# Altium integrated library gpn-badge.IntLib: 48 symbols
Pins are listed as number, name and electrical type; pins without a type are passive.

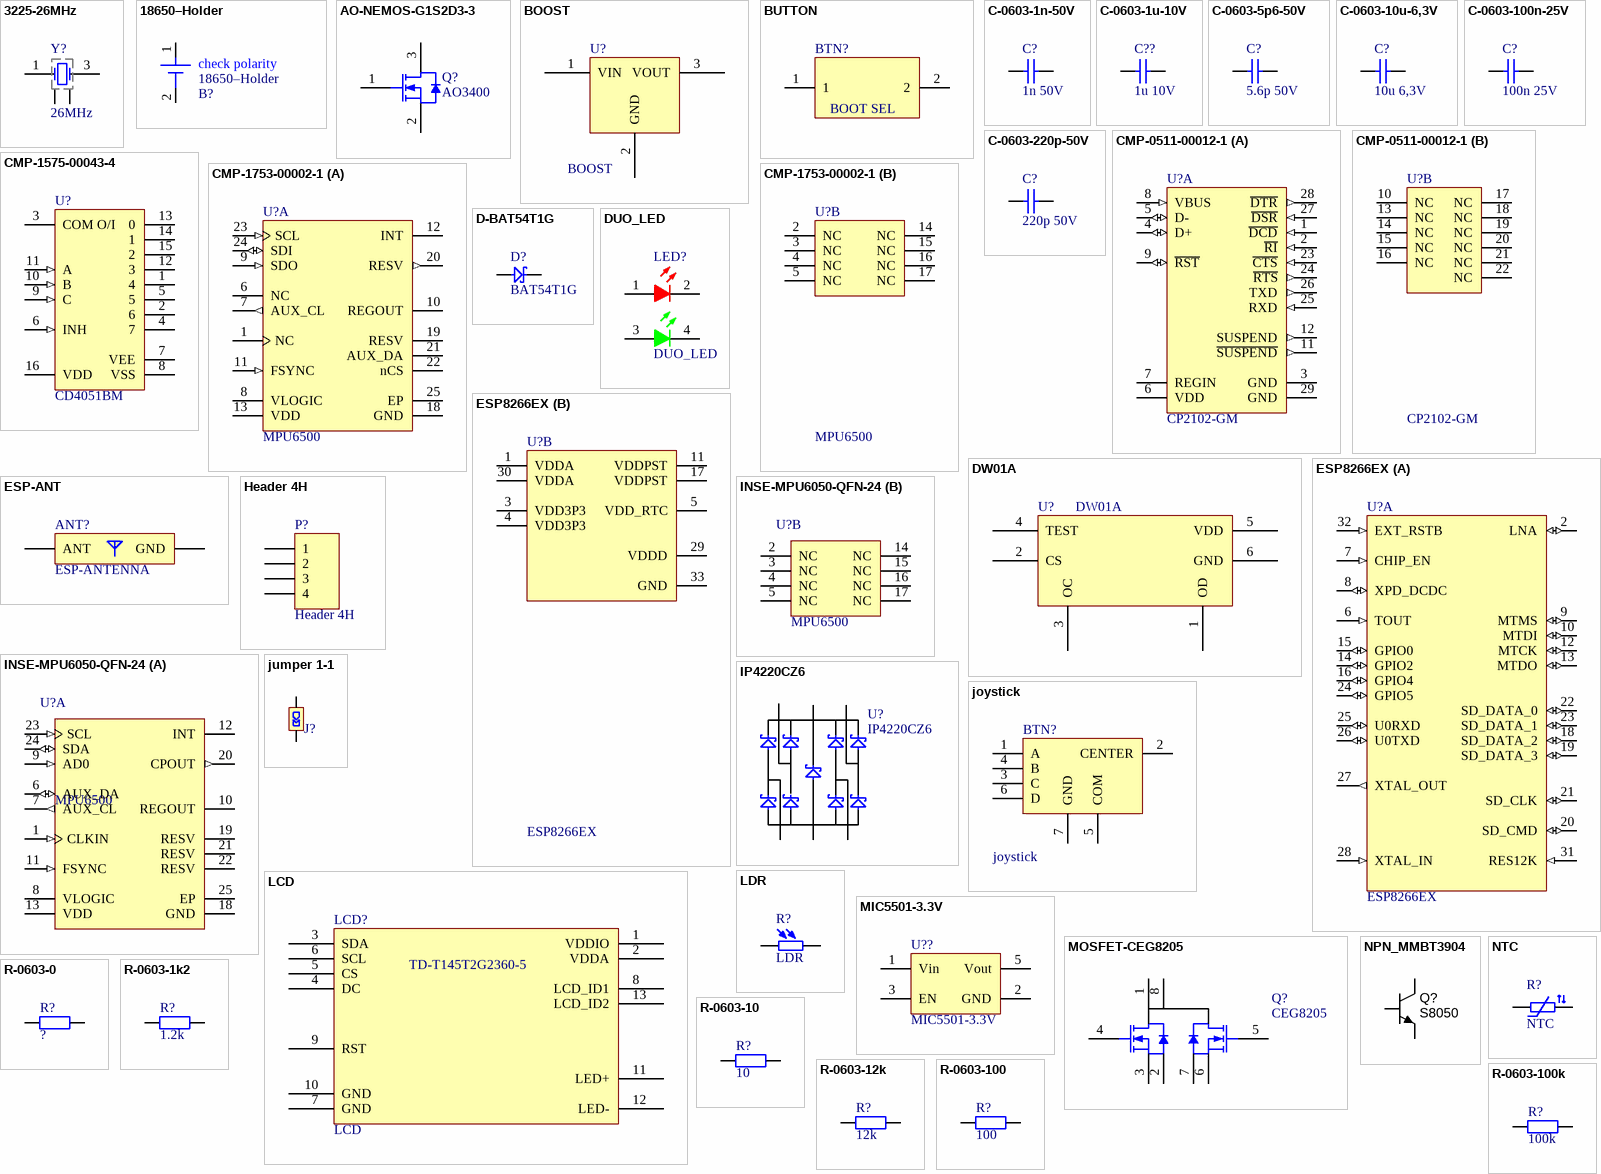
[diagram p0: symbols 3225-26MHz to R-0603-100k]

## 3225-26MHz
designator Y?, comment 26MHz
footprint 3225
pins: 1 (power), 2 (power), 3 (power), 4 (power)

## 18650–Holder
designator B?
footprint 18650–Holder
pins: 1, 2
text: check polarity

## AO-NEMOS-G1S2D3-3
designator Q?, comment AO3400
N-channel Enhancement Mode Field-Effect Transistor; 5.8A/30V; Manufacturer: Alpha and Omega; Channel Type: N; Drain-Source Voltage Limit: 30 V; Junction Temperature: -55 to 150 degC; Gate-Source Voltage Limit: +/-12 V; PackageDescription: 3-Pin SOT23, 3.016 x 2.8 mm Body, 0.95 mm Pitch; ComponentLink2Description: Datasheet; DatasheetVersion: Rev.8, 12/2011; ComponentLink3URL: http://www.aosmd.com/res/packaging_information/SOT-23.pdf; Storage Temperature: -55 to 150 degC; ComponentLink3Description: Package Specification; PackageReference: SOT23; ComponentLink1Description: Manufacturer URL; Mounting Technology: Surface Mount; ComponentLink1URL: http://www.aosmd.com/; PartNumber: AO3400; ComponentLink2URL: http://www.aosmd.com/res/data_sheets/AO3400.pdf
footprint AO-SOT23-3_V (SOT23, 3-Leads, Body 3.016x2.8mm, Pitch 0.95mm)
pins: 1 G, 2 S, 3 D

## BOOST
designator U?
footprint BOOST
pins: 1 VIN, 2 GND, 3 VOUT

## BUTTON
designator BTN?
footprint BUTON
pins: 1, 2
text: BOOT SEL

## C-0603-1n-50V
designator C?, comment 1n 50V
Capacitor 1nF 50V; Supplier 1: Mouser; Supplier Part Number 1: 80-C0603C102J5G
footprint C-0603-H (Chip Resistor, Body 1.6x0.8mm, IPC High Density)
footprint C-0603-L (Chip Resistor, Body 1.6x0.8mm, IPC Low Density)
footprint C-0603-M (Chip Resistor, Body 1.6x0.8mm, IPC Medium Density)
pins: 1, 2

## C-0603-1u-10V
designator C??, comment 1u 10V
Capacitor 1uF 10V; Supplier 1: Mouser; Supplier Part Number 1: 80-C0603C105K8P
footprint C-0603-H (Chip Resistor, Body 1.6x0.8mm, IPC High Density)
footprint C-0603-L (Chip Resistor, Body 1.6x0.8mm, IPC Low Density)
footprint C-0603-M (Chip Resistor, Body 1.6x0.8mm, IPC Medium Density)
pins: 1, 2

## C-0603-5p6-50V
designator C?, comment 5.6p 50V
Capacitor 5.6pF 50V; Supplier 1: Mouser; Supplier Part Number 1: 80-C0603C569C5GACTM
footprint C-0603-H (Chip Resistor, Body 1.6x0.8mm, IPC High Density)
footprint C-0603-L (Chip Resistor, Body 1.6x0.8mm, IPC Low Density)
footprint C-0603-M (Chip Resistor, Body 1.6x0.8mm, IPC Medium Density)
pins: 1, 2

## C-0603-10u-6,3V
designator C?, comment 10u 6,3V
Capacitor 10uF 6,3V; Supplier 1: Mouser; Supplier Part Number 1: 80-C0603C106M9P
footprint C-0603-H (Chip Resistor, Body 1.6x0.8mm, IPC High Density)
footprint C-0603-L (Chip Resistor, Body 1.6x0.8mm, IPC Low Density)
footprint C-0603-M (Chip Resistor, Body 1.6x0.8mm, IPC Medium Density)
pins: 1, 2

## C-0603-100n-25V
designator C?, comment 100n 25V
Capacitor 100n 25V; Supplier 1: Mouser; Supplier Part Number 1: 80-C0603C104K3R
footprint C-0603-H (Chip Resistor, Body 1.6x0.8mm, IPC High Density)
footprint C-0603-L (Chip Resistor, Body 1.6x0.8mm, IPC Low Density)
footprint C-0603-M (Chip Resistor, Body 1.6x0.8mm, IPC Medium Density)
pins: 1, 2

## C-0603-220p-50V
designator C?, comment 220p 50V
Capacitor 220p 50V; Supplier 1: Mouser; Supplier Part Number 1: 80-C0603C221F5GAC
footprint C-0603-H (Chip Resistor, Body 1.6x0.8mm, IPC High Density)
footprint C-0603-L (Chip Resistor, Body 1.6x0.8mm, IPC Low Density)
footprint C-0603-M (Chip Resistor, Body 1.6x0.8mm, IPC Medium Density)
pins: 1, 2

## CMP-0511-00012-1
designator U?, comment CP2102-GM
Single-Chip USB to UART Bridge, 1024 Bytes EEPROM, -40 to 85 degC, 28-pin QFN, Tube; Manufacturer: Silicon Labs; Internal Oscillator: TRUE; Sub-Family: USB Bridges; ComponentLink3Description: Package Specification; PackageDescription: 28-Pin Quad-Flat No-Leads Package, Body 5 x 5 mm, Pitch 0.5 mm; PartNumber: CP2102-GM; EEPROM: 1024 Bytes; Mounting Technology: Surface Mount; ComponentLink2URL: http://www.silabs.com/Support%20Documents/TechnicalDocs/CP2102-9.pdf; DatasheetVersion: Rev. 1.5; ComponentLink1URL: http://www.silabs.com/; ComponentLink2Description: Datasheet; Code_JEDEC: MO-220; PackageReference: QFN-28; Code_IPC: J-STD-020C; ComponentLink3URL: http://www.silabs.com/Support%20Documents/TechnicalDocs/C8051T61x.pdf; ComponentLink1Description: Manufacturer URL; PartId: 1
footprint SLAB-QFN-28-3125x3125TP_N (QFN, 28-Leads, Body 5x5mm, Pitch 0.5mm, Thermal Pad 3.13x3.13mm, IPC Medium Density)
footprint SLAB-QFN-28-3125x3125TP_M (QFN, 28-Leads, Body 5x5mm, Pitch 0.5mm, Thermal Pad 3.13x3.13mm, IPC Low Density)
footprint SLAB-QFN-28-3125x3125TP_L (QFN, 28-Leads, Body 5x5mm, Pitch 0.5mm, Thermal Pad 3.13x3.13mm, IPC High Density)
part A pins: 1 ~{DCD} (in) "Data Carrier Detect control input (active low)", 2 ~{RI} (in) "Ring Indicator control input (active low)", 3 GND (power) "Ground", 4 D+ (io) "USB D+", 5 D- (io) "USB D-", 6 VDD (power) "3.0-3.6 V Power Supply Voltage Input. 3.3 V Voltage Regulator Output", 7 REGIN (power) "5 V Regulator Input. This pin is the input to the on-chip voltage regulator.", 8 VBUS (in) "VBUS Sense Input. This pin should be connected to the VBUS signal of a USB network. A 5 V signal on this pin indicates a USB network connection.", 9 ~{RST} (io) "Device Reset. Open-drain output of internal POR or VDD monitor. An external source can initiate a system reset by driving this pin low for at least 15 us.", 11 ~{SUSPEND} (out), 12 SUSPEND (out), 23 ~{CTS} (in) "Clear To Send control input (active low)", 24 ~{RTS} (out) "Ready to Send control output (active low)", 25 RXD (in) "Asynchronous data input (UART Receive)", 26 TXD (out) "Asynchronous data output (UART Transmit)", 27 ~{DSR} (in) "Data Set Ready control input (active low)", 28 ~{DTR} (out) "Data Terminal Ready control output (active low)", 29 GND (power) "Ground"
part B pins: 10 NC "These pins should be left unconnected or tied to VDD.", 13 NC "These pins should be left unconnected or tied to VDD.", 14 NC "These pins should be left unconnected or tied to VDD.", 15 NC "These pins should be left unconnected or tied to VDD.", 16 NC "These pins should be left unconnected or tied to VDD.", 17 NC "These pins should be left unconnected or tied to VDD.", 18 NC "These pins should be left unconnected or tied to VDD.", 19 NC "These pins should be left unconnected or tied to VDD.", 20 NC "These pins should be left unconnected or tied to VDD.", 21 NC "These pins should be left unconnected or tied to VDD.", 22 NC "These pins should be left unconnected or tied to VDD."

## CMP-1575-00043-4
designator U?, comment CD4051BM
CMOS Single 8-Channel Analog Multiplexer/Demultiplexer with Logic-Level Conversion, D0016A, TUBE; Manufacturer: Texas Instruments; Ron(Typ)(Ohms): 125; Configuration: 1 X 1：8 MUX; ICC(Typ)(mA): 0.00008; Ron(Max)(Ohms): 240; VCC(Min)(V): 5; VCC(Max)(V): 18; Crosstalk: Yes; Bandwidth(Max)(MHz): 20; Rating: Military; Output Drive (IOL/IOH)(Max)(mA): 1; DatasheetVersion: SCHS047G; Generic Part Number: CD4051B; Output Type: CMOS; PackageReference: D0016A; PackageVersion: http://www.ti.com/lit/ml/mpds178g/mpds178g.pdf; Operating Temperature Range(C): -55 to 125; Code_JEDEC: MS-012 variation AC
footprint D0016A_M (SOIC, 16-Leads, Body 10x4mm, Pitch 1.27mm, IPC Low Density)
footprint D0016A_L (SOIC, 16-Leads, Body 10x4mm, Pitch 1.27mm, IPC High Density)
footprint D0016A_N (SOIC, 16-Leads, Body 10x4mm, Pitch 1.27mm, IPC Medium Density)
pins: 1 4, 2 6, 3 COM O/I, 4 7, 5, 6 INH (in), 7 VEE (power), 8 VSS (power), 9 C (in), 10 B (in), 11 A (in), 12 3, 13 0, 14 1, 15 2, 16 VDD (power)

## CMP-1753-00002-1
designator U?, comment MPU6500
3-Axis Gyroscope, 3-Axis Accelerometer / , 2.375 to 3.46 V, -40 to 105 degC, 24-Pin QFN, RoHS, Tape and Reel; Resistance: 5.6 kohm; Tolerance: 1%; Voltage Rating: 75 V; Power Rating: 100 mW; ComponentLink1Description: Manufacturer URL; Mount: Surface Mount; Max Operating Temperature: 155degC; Package Quantity: 5000; ComponentLink2Description: Datasheet; Pins: 2; Packaging: Tape and Reel; Case Code (Imperial): 0603; PackageReference: QFN-24; ComponentLink2URL: https://datasheet.ciiva.com/1513/1788002-1513632.pdf; Radiation Hardening: No; ComponentLink1URL: http://www.invensense.com/; PackageDescription: 24-Pin Quad Flat No-lead Package, Body 4 x 4 mm, Pitch 0.5 mm; Height: 0.45 mm; Case/Package: 0603; Case Code (Metric): 1608; REACH SVHC: Yes; Min Operating Temperature: -55degC; DatasheetVersion: Rev. 3.4, 08/2013; Width: 0.8 mm; RoHSCompliant: True; Length: 1.6 mm; PartId: 1
footprint INSE-QFN-24_V (QFN, 24-Leads, Body 4.00x4.00mm, Pitch 0.50mm, Thermal Pad 2.7x2.6mm)
part A pins: 1 NC "Not internally connected. May be used for PCB trace routing.", 6 NC "Not internally connected. May be used for PCB trace routing.", 7 AUX_CL (out) "I2C Master serial clock, for connecting to external sensors", 8 VLOGIC (power) "Digital I/O supply voltage", 9 SDO (in) "SPI MISO", 10 REGOUT "Regulator filter capacitor connection", 11 FSYNC (in) "Frame synchronization digital input. Connect to GND if unused.", 12 INT (oc) "Interrupt digital output (totem pole or open-drain)", 13 VDD (power) "Power supply voltage and Digital I/O supply voltage", 18 GND (power) "Power supply ground", 19 RESV "Reserved. Do not connect.", 20 RESV (out) "Reserved. Do not connect.", 21 AUX_DA, 22 nCS "SPI CS", 23 SCL (in) "SPI serial clock (SCL)", 24 SDI (io) "SPI MOSI", 25 EP
part B pins: 2 NC "Not internally connected. May be used for PCB trace routing.", 3 NC "Not internally connected. May be used for PCB trace routing.", 4 NC "Not internally connected. May be used for PCB trace routing.", 5 NC "Not internally connected. May be used for PCB trace routing.", 14 NC "Not internally connected. May be used for PCB trace routing.", 15 NC "Not internally connected. May be used for PCB trace routing.", 16 NC "Not internally connected. May be used for PCB trace routing.", 17 NC "Not internally connected. May be used for PCB trace routing."

## D-BAT54T1G
designator D?, comment BAT54T1G
Supplier 1: Mouser; Supplier Part Number 1: 863-BAT54T1G
footprint SOD123
pins: 1 an, 2 kt

## DUO_LED
designator LED?
footprint LEDDUO
pins: 1 A, 2 K, 3 A, 4 K

## DW01A
designator U?
Single Cell LiIon LiPo Protection
footprint SOT23-6 (SOT23, 6-Leads, Body 2.9x1.6mm, Pitch 0.95mm, Lead Span 2.8mm, IPC Medium Density)
pins: 1 OD, 2 CS, 3 OC, 4 TEST, 5 VDD, 6 GND

## ESP8266EX
designator U?
footprint QFN32-5x5mm (QFN, 32-Leads, Body 5x5mm, Pitch 0.5mm, Thermal Pad 3.3x3.3mm, IPC Medium Density)
part A pins: 2 LNA (io), 6 TOUT (in), 7 CHIP_EN (in), 8 XPD_DCDC (io), 9 MTMS (io), 10 MTDI (io), 12 MTCK (io), 13 MTDO (io), 14 GPIO2 (io), 15 GPIO0 (io), 16 GPIO4 (io), 18 SD_DATA_2 (io), 19 SD_DATA_3 (io), 20 SD_CMD (io), 21 SD_CLK (io), 22 SD_DATA_0 (io), 23 SD_DATA_1 (io), 24 GPIO5 (io), 25 U0RXD (io), 26 U0TXD (io), 27 XTAL_OUT (out), 28 XTAL_IN (in), 31 RES12K (in), 32 EXT_RSTB (in)
part B pins: 1 VDDA (power), 3 VDD3P3 (power), 4 VDD3P3 (power), 5 VDD_RTC (power), 11 VDDPST (power), 17 VDDPST (power), 29 VDDD (power), 30 VDDA (power), 33 GND (power)

## ESP-ANT
designator ANT?, comment ESP-ANTENNA
footprint ESP8266_ANT
pins: 1 ANT, 2 GND (power)

## Header 4H
designator P?
Header, 4-Pin, Right Angle; LatestRevisionDate: 17-Jul-2002; LatestRevisionNote: Re-released for DXP Platform.; Publisher: Altium Limited
footprint HDR1X4H (Connector; Header; 4 Position; Right Angle)
signal-integrity model Connector
pins: 1, 2, 3, 4

## INSE-MPU6050-QFN-24
designator U?, comment MPU6500
3-Axis Gyroscope, 3-Axis Accelerometer / , 2.375 to 3.46 V, -40 to 105 degC, 24-Pin QFN, RoHS, Tape and Reel; Resistance: 5.6 kohm; Tolerance: 1%; Voltage Rating: 75 V; Power Rating: 100 mW; ComponentLink1Description: Manufacturer URL; Mount: Surface Mount; Max Operating Temperature: 155degC; Package Quantity: 5000; ComponentLink2Description: Datasheet; Pins: 2; Packaging: Tape and Reel; Case Code (Imperial): 0603; PackageReference: QFN-24; ComponentLink2URL: https://datasheet.ciiva.com/1513/1788002-1513632.pdf; Radiation Hardening: No; ComponentLink1URL: http://www.invensense.com/; PackageDescription: 24-Pin Quad Flat No-lead Package, Body 4 x 4 mm, Pitch 0.5 mm; Height: 0.45 mm; Case/Package: 0603; Case Code (Metric): 1608; REACH SVHC: Yes; Min Operating Temperature: -55degC; DatasheetVersion: Rev. 3.4, 08/2013; Width: 0.8 mm; RoHSCompliant: True; Length: 1.6 mm; PartId: 1
footprint INSE-QFN-24_V (QFN, 24-Leads, Body 4.00x4.00mm, Pitch 0.50mm, Thermal Pad 2.7x2.6mm)
part A pins: 1 CLKIN (in) "Optional external reference clock input. Connect to GND if unused.", 6 AUX_DA (io) "I2C master serial data, for connecting to external sensors", 7 AUX_CL (out) "I2C Master serial clock, for connecting to external sensors", 8 VLOGIC (power) "Digital I/O supply voltage", 9 AD0 (in) "I2C Slave Address LSB (AD0)", 10 REGOUT "Regulator filter capacitor connection", 11 FSYNC (in) "Frame synchronization digital input. Connect to GND if unused.", 12 INT (oc) "Interrupt digital output (totem pole or open-drain)", 13 VDD (power) "Power supply voltage and Digital I/O supply voltage", 18 GND (power) "Power supply ground", 19 RESV "Reserved. Do not connect.", 20 CPOUT (out) "Charge pump capacitor connection", 21 RESV "Reserved. Do not connect.", 22 RESV "Reserved. Do not connect.", 23 SCL (in) "I2C serial clock (SCL)", 24 SDA (io) "I2C serial data (SDA)", 25 EP
part B pins: 2 NC "Not internally connected. May be used for PCB trace routing.", 3 NC "Not internally connected. May be used for PCB trace routing.", 4 NC "Not internally connected. May be used for PCB trace routing.", 5 NC "Not internally connected. May be used for PCB trace routing.", 14 NC "Not internally connected. May be used for PCB trace routing.", 15 NC "Not internally connected. May be used for PCB trace routing.", 16 NC "Not internally connected. May be used for PCB trace routing.", 17 NC "Not internally connected. May be used for PCB trace routing."

## IP4220CZ6
designator U?
USB ESD Protection
footprint SOT23-6 (SOT23, 6-Leads, Body 2.9x1.6mm, Pitch 0.95mm, Lead Span 2.8mm, IPC Medium Density)
pins: 1 bla3, 2 GND, 3 bla4, 4 bla2, 5 VBUS, 6 bla1

## joystick
designator BTN?
footprint joystick
pins: 1 A, 2 CENTER, 3 C, 4 B, 5 COM, 6 D, 7 GND

## jumper 1-1
designator J?, comment jumper  (value not drawn)
footprint JUMPER 1-1
pins: 1, 2

## LCD
designator LCD?
footprint LCD
pins: 1 VDDIO, 2 VDDA, 3 SDA, 4 DC, 5 CS, 6 SCL, 7 GND, 8 LCD_ID1, 9 RST, 10 GND, 11 LED+, 12 LED-, 13 LCD_ID2
text: TD-T145T2G2360-5

## LDR
designator R?
footprint LDR-5mm
pins: 1, 2

## MIC5501-3.3V
designator U??
Supplier 1: Mouser; Supplier Part Number 1: 998-MIC5501-3.0YM5TR
footprint SOT23-5 (SOT23, 5-Leads, Body 2.9x1.6mm, Pitch 0.95mm, Lead Span 2.8mm, IPC Medium Density)
pins: 1 Vin, 2 GND, 3 EN, 5 Vout

## MOSFET-CEG8205
designator Q?, comment CEG8205
Dual mini mosfet 20V 4.5A; Supplier 1: AliExpress
footprint TSSOP8 (TSOP, 8-Leads, Body 3x3mm, Pitch 0.65mm, IPC Medium Density)
pins: 1 S, 2 S1, 3 S1, 4 G1, 5 G2, 6 S2, 7 S2, 8 D

## NPN_MMBT3904
designator Q?  Manufacturer Part Number 1: S8050  (hidden comment: NPN_MMBT3904)
Transistor SMD NPN 40V 0.2A 250mW SOT-23; Manufacturer 1: Fairchild Semiconductor; Ratings: 40V; 200mA; 250mW; Material: Si; SCDType: source; Package / Case: SOT-23; Supplier 1: Digi-Key; Supplier Part Number 1: MMBT3904FSCT-ND; Transistor Type: NPN; Mounting Type: Surface Mount; Supplier 2: Digi-Key; Supplier Part Number 2: 568-1741-1-ND; Manufacturer 2: NXP Semiconductors; Manufacturer Part Number 2: PMBT3904,215; ComponentLink2URL: http://www.nxp.com/documents/data_sheet/PMBT3904.pdf; ComponentLink2Description: http://www.nxp.com/documents/data_sheet/PMBT3904.pdf; ComponentLink1URL: http://www.fairchildsemi.com/ds/MM/MMBT3904.pdf; ComponentLink1Description: http://www.fairchildsemi.com/ds/MM/MMBT3904.pdf
footprint SOT23-3 (SOT23, 3 pin)
pins: 1 B, 2 E, 3 C

## NTC
designator R?
footprint NTC
pins: 1, 2

## R-0603-0
designator R?, comment ?
Resistor 0; Resistance: 0; Supplier 1: Mouser; Supplier Part Number 1: 71-CRCW0603-0-E3
footprint R-0603-L (Chip Resistor, Body 1.6x0.8mm, IPC Low Density)
footprint R-0603-M (Chip Resistor, Body 1.6x0.8mm, IPC Medium Density)
footprint R-0603-H (Chip Resistor, Body 1.6x0.8mm, IPC High Density)
pins: 1, 2

## R-0603-1k2
designator R?, comment 1.2k
Resistor 1.2k
footprint R-0603-L (Chip Resistor, Body 1.6x0.8mm, IPC Low Density)
footprint R-0603-M (Chip Resistor, Body 1.6x0.8mm, IPC Medium Density)
footprint R-0603-H (Chip Resistor, Body 1.6x0.8mm, IPC High Density)
pins: 1, 2

## R-0603-10
designator R?, comment 10
Resistor 10; Supplier 1: Mouser; Supplier Part Number 1: 71-CRCW0603-10-E3
footprint R-0603-H (Chip Resistor, Body 1.6x0.8mm, IPC High Density)
footprint R-0603-L (Chip Resistor, Body 1.6x0.8mm, IPC Low Density)
footprint R-0603-M (Chip Resistor, Body 1.6x0.8mm, IPC Medium Density)
pins: 1, 2

## R-0603-12k
designator R?, comment 12k
Resistor 12k; Supplier 1: Mouser; Supplier Part Number 1: 71-CRCW0603-12K-E3
footprint R-0603-L (Chip Resistor, Body 1.6x0.8mm, IPC Low Density)
footprint R-0603-M (Chip Resistor, Body 1.6x0.8mm, IPC Medium Density)
footprint R-0603-H (Chip Resistor, Body 1.6x0.8mm, IPC High Density)
pins: 1, 2

## R-0603-100
designator R?, comment 100
Resistor 100; Supplier 1: Mouser; Supplier Part Number 1: 71-CRCW0603-100-E3
footprint R-0603-L (Chip Resistor, Body 1.6x0.8mm, IPC Low Density)
footprint R-0603-M (Chip Resistor, Body 1.6x0.8mm, IPC Medium Density)
footprint R-0603-H (Chip Resistor, Body 1.6x0.8mm, IPC High Density)
pins: 1, 2

## R-0603-100k
designator R?, comment 100k
Resistor 100k; Supplier 1: Mouser; Supplier Part Number 1: 71-CRCW0603-100K-E3
footprint R-0603-L (Chip Resistor, Body 1.6x0.8mm, IPC Low Density)
footprint R-0603-M (Chip Resistor, Body 1.6x0.8mm, IPC Medium Density)
footprint R-0603-H (Chip Resistor, Body 1.6x0.8mm, IPC High Density)
pins: 1, 2

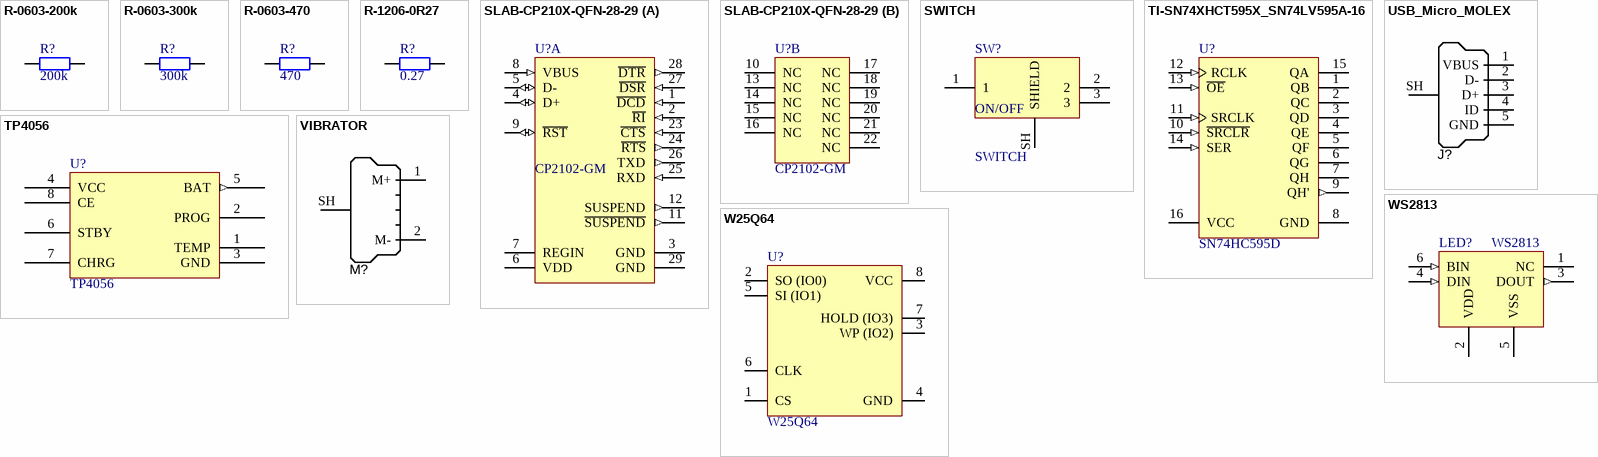
[diagram p1: symbols R-0603-200k to WS2813]

## R-0603-200k
designator R?, comment 200k
Resistor 200k; Supplier 1: Mouser; Supplier Part Number 1: 71-CRCW0603-200K-E3
footprint R-0603-H (Chip Resistor, Body 1.6x0.8mm, IPC High Density)
footprint R-0603-M (Chip Resistor, Body 1.6x0.8mm, IPC Medium Density)
footprint R-0603-L (Chip Resistor, Body 1.6x0.8mm, IPC Low Density)
pins: 1, 2

## R-0603-300k
designator R?, comment 300k
Resistor 300k; Resistance: 300k; Supplier 1: Mouser; Supplier Part Number 1: 71-CRCW0201300KFKED
footprint R-0603-L (Chip Resistor, Body 1.6x0.8mm, IPC Low Density)
footprint R-0603-M (Chip Resistor, Body 1.6x0.8mm, IPC Medium Density)
footprint R-0603-H (Chip Resistor, Body 1.6x0.8mm, IPC High Density)
pins: 1, 2

## R-0603-470
designator R?, comment 470
Resistor 470; Supplier 1: Mouser; Supplier Part Number 1: 71-CRCW0603-470K-E3
footprint R-0603-H (Chip Resistor, Body 1.6x0.8mm, IPC High Density)
footprint R-0603-M (Chip Resistor, Body 1.6x0.8mm, IPC Medium Density)
footprint R-0603-L (Chip Resistor, Body 1.6x0.8mm, IPC Low Density)
pins: 1, 2

## R-1206-0R27
designator R?, comment 0.27
Resistor 0.27; Supplier 1: Mouser; Supplier Part Number 1: 71-RCWE1206R270FKEA
footprint R-1206-H (Chip Resistor, Body 3.2x1.6mm, IPC High Density)
footprint R-1206-L (Chip Resistor, Body 3.2x1.6mm, Height 1mm, IPC Low Density)
footprint R-1206-M (Chip Resistor, Body 3.2x1.6mm, IPC Medium Density)
pins: 1, 2

## SLAB-CP210X-QFN-28-29
designator U?, comment CP2102-GM
Single-Chip USB to UART Bridge, 1024 Bytes EEPROM, -40 to 85 degC, 28-pin QFN, Tube; Manufacturer: Silicon Labs; Internal Oscillator: TRUE; Sub-Family: USB Bridges; ComponentLink3Description: Package Specification; PackageDescription: 28-Pin Quad-Flat No-Leads Package, Body 5 x 5 mm, Pitch 0.5 mm; PartNumber: CP2102-GM; EEPROM: 1024 Bytes; Mounting Technology: Surface Mount; ComponentLink2URL: http://www.silabs.com/Support%20Documents/TechnicalDocs/CP2102-9.pdf; DatasheetVersion: Rev. 1.5; ComponentLink1URL: http://www.silabs.com/; ComponentLink2Description: Datasheet; Code_JEDEC: MO-220; PackageReference: QFN-28; Code_IPC: J-STD-020C; ComponentLink3URL: http://www.silabs.com/Support%20Documents/TechnicalDocs/C8051T61x.pdf; ComponentLink1Description: Manufacturer URL; PartId: 1
footprint SLAB-QFN-28-3125x3125TP_N (QFN, 28-Leads, Body 5x5mm, Pitch 0.5mm, Thermal Pad 3.13x3.13mm, IPC Medium Density)
footprint SLAB-QFN-28-3125x3125TP_M (QFN, 28-Leads, Body 5x5mm, Pitch 0.5mm, Thermal Pad 3.13x3.13mm, IPC Low Density)
footprint SLAB-QFN-28-3125x3125TP_L (QFN, 28-Leads, Body 5x5mm, Pitch 0.5mm, Thermal Pad 3.13x3.13mm, IPC High Density)
part A pins: 1 ~{DCD} (in) "Data Carrier Detect control input (active low)", 2 ~{RI} (in) "Ring Indicator control input (active low)", 3 GND (power) "Ground", 4 D+ (io) "USB D+", 5 D- (io) "USB D-", 6 VDD (power) "3.0-3.6 V Power Supply Voltage Input. 3.3 V Voltage Regulator Output", 7 REGIN (power) "5 V Regulator Input. This pin is the input to the on-chip voltage regulator.", 8 VBUS (in) "VBUS Sense Input. This pin should be connected to the VBUS signal of a USB network. A 5 V signal on this pin indicates a USB network connection.", 9 ~{RST} (io) "Device Reset. Open-drain output of internal POR or VDD monitor. An external source can initiate a system reset by driving this pin low for at least 15 us.", 11 ~{SUSPEND} (out), 12 SUSPEND (out), 23 ~{CTS} (in) "Clear To Send control input (active low)", 24 ~{RTS} (out) "Ready to Send control output (active low)", 25 RXD (in) "Asynchronous data input (UART Receive)", 26 TXD (out) "Asynchronous data output (UART Transmit)", 27 ~{DSR} (in) "Data Set Ready control input (active low)", 28 ~{DTR} (out) "Data Terminal Ready control output (active low)", 29 GND (power) "Ground"
part B pins: 10 NC "These pins should be left unconnected or tied to VDD.", 13 NC "These pins should be left unconnected or tied to VDD.", 14 NC "These pins should be left unconnected or tied to VDD.", 15 NC "These pins should be left unconnected or tied to VDD.", 16 NC "These pins should be left unconnected or tied to VDD.", 17 NC "These pins should be left unconnected or tied to VDD.", 18 NC "These pins should be left unconnected or tied to VDD.", 19 NC "These pins should be left unconnected or tied to VDD.", 20 NC "These pins should be left unconnected or tied to VDD.", 21 NC "These pins should be left unconnected or tied to VDD.", 22 NC "These pins should be left unconnected or tied to VDD."

## SWITCH
designator SW?
footprint SWITCH
pins: 1, 2, 3, SH SHIELD
text: ON/OFF

## TI-SN74XHCT595X_SN74LV595A-16
designator U?, comment SN74HC595D
8-Bit Shift Registers With 3-State Output Registers, D0016A, TUBE; Manufacturer: Texas Instruments; Bits: 8; F @ Nom Voltage(Max)(Mhz): 28; Voltage(Nom)(V): 6; ICC @ Nom Voltage(Max)(mA): 0.08; Output Drive (IOL/IOH)(Max)(mA): 7.8/-7.8; tpd @ Nom Voltage(Max)(ns): 34; 3-State Output: Yes; VCC(Min)(V): 2; Output Type: CMOS; Technology Family: HC; Rating: Military; Generic Part Number: SN74HC595; PackageReference: D0016A; Code_JEDEC: MS-012 variation AC; Operating Temperature Range(C): -40 to 85; VCC(Max)(V): 6; DatasheetVersion: SCLS041H; Input Type: CMOS; PackageVersion: http://www.ti.com/lit/ml/mpds178g/mpds178g.pdf
footprint D0016A_L (SOIC, 16-Leads, Body 10x4mm, Pitch 1.27mm, IPC High Density)
footprint D0016A_M (SOIC, 16-Leads, Body 10x4mm, Pitch 1.27mm, IPC Low Density)
footprint D0016A_N (SOIC, 16-Leads, Body 10x4mm, Pitch 1.27mm, IPC Medium Density)
pins: 1 QB (hiz) "QB Output", 2 QC (hiz) "QC Output", 3 QD (hiz) "QD Output", 4 QE (hiz) "QE Output", 5 QF (hiz) "QF Output", 6 QG (hiz) "QG Output", 7 QH (hiz) "QH Output", 8 GND (power) "Ground Pin", 9 QH' (out) "QH' Output", 10 ~{SRCLR} (in) "S\R\C\L\R\ Input", 11 SRCLK (in) "SRCLK Input", 12 RCLK (in) "RCLK Input", 13 ~{OE} (in) "Output Enable Pin", 14 SER (in) "SER Input", 15 QA (hiz) "QA Output", 16 VCC (power) "Power Pin"

## TP4056
designator U?
1A standalone linear charging IC; Supplier 1: AliExpress
footprint SOIC127P600X20_HS-9N (SOIC, 8-Leads, Body 4,90x3,90mm, Pitch 1,27mm, Thermal Pad 3,40x2,50mm, IPC Medium Density)
pins: 1 TEMP, 2 PROG, 3 GND (power), 4 VCC, 5 BAT (out), 6 STBY, 7 CHRG, 8 CE

## USB_Micro_MOLEX
designator J?, comment USB Micro Type B (recommended if hand soldering)  (value not drawn)
Connector SMD-THD USB Micro Type B middle mount
footprint USB_Micro-Molex
pins: 1 VBUS, 2 D-, 3 D+, 4 ID, 5 GND, SH Shell

## VIBRATOR
designator M?  (value not drawn)
rawr
footprint VIBRATOR_SMD
pins: 1 M+, 2 M-, SH Shell

## W25Q64
designator U?
8MB / 64Mib Flash
footprint SOIC-8 (SOIC, 8-Leads, Body 4.89x3.9mm, Pitch 1.27mm, IPC Low Density)
pins: 1 CS, 2 SO (IO0), 3 WP (IO2), 4 GND, 5 SI (IO1), 6 CLK, 7 HOLD (IO3), 8 VCC

## WS2813
designator LED?
WS2813 Addressable LED
footprint plcc6
pins: 1 NC, 2 VDD (power), 3 DOUT (out), 4 DIN (in), 5 VSS (power), 6 BIN (in)